# EAGLE library part TS3A5018 (library texas-instruments)
IC SWITCH QUAD SPDT 16UQFN
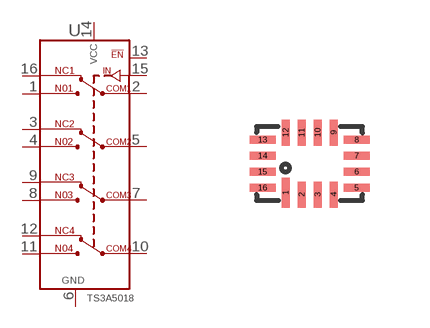
[diagram p43: symbol with the pads of UQFN-16(RSV); footprint UQFN-16(RSV)]

Designator prefix U

## TS3A5018 (DIGIKEY: 296-27552-1-ND; MFR: Texas Instruments; MPN: TS3A5018RSVR; P1I: o)  [UQFN-16(RSV)]
1  NO1
2  COM1
3  NC2
4  NO2
5  COM2
6  GND
7  COM3
8  NO3
9  NC3
10  COM4
11  NO4
12  NC4
13  !EN
14  VCC
15  IN
16  NC1

## Footprint UQFN-16(RSV) (pad centres in mm)
smd 0.2 x 0.75: 1 -0.6,-0.725
smd 0.2 x 0.65: 2 -0.2,-0.775; 3 0.2,-0.775; 4 0.6,-0.775; 9 0.6,0.775; 10 0.2,0.775; 11 -0.2,0.775; 12 -0.6,0.775
smd 0.65 x 0.2: 5 1.175,-0.6; 6 1.175,-0.2; 7 1.175,0.2; 8 1.175,0.6; 13 -1.175,0.6; 14 -1.175,0.2; 15 -1.175,-0.2; 16 -1.175,-0.6